# EAGLE library part 74HC4024N,652 (library NXP_By_element14_Batch_1)
7-stage binary ripple counter
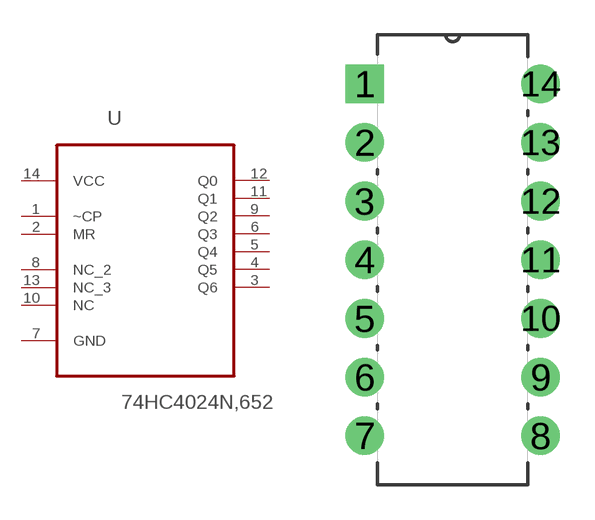
[diagram p89: symbol with the pads of DIP254P762X420-14; footprint DIP254P762X420-14]

Designator prefix U

## 74HC4024N,652 (MPN: 74HC4024N,652; OC_FARNELL: 1868607; OC_NEWARK: 71R2474; P1I: o; PACKAGE: DIP-14; SUPPLIER: NXP)  [DIP254P762X420-14]
1  ~CP  in
2  MR  in
3  Q6  out
4  Q5  out
5  Q4  out
6  Q3  out
7  GND  pas
8  NC_2  nc
9  Q2  out
10  NC  nc
11  Q1  out
12  Q0  out
13  NC_3  nc
14  VCC  pwr

## Footprint DIP254P762X420-14 (pad centres in mm)
drill 1.118 square: 1 -7.62,15.24
drill 1.118: 2 -7.62,12.7; 3 -7.62,10.16; 4 -7.62,7.62; 5 -7.62,5.08; 6 -7.62,2.54; 7 -7.62,0; 8 0,0; 9 0,2.54; 10 0,5.08; 11 0,7.62; 12 0,10.16; 13 0,12.7; 14 0,15.24